# Altium schematic symbol library SCH - FET - P-CH - INFINEON PG-TO263-3-2.Schlib: 1 symbol
Pins are listed as number, name and electrical type; pins without a type are passive.

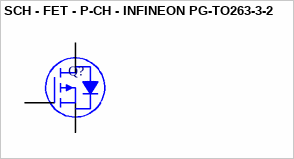
[diagram p0: symbol SCH - FET - P-CH - INFINEON PG-TO263-3-2]

## SCH - FET - P-CH - INFINEON PG-TO263-3-2
designator Q?
footprint INF-PG-TO263-3-2_N (DPAK, 3-Leads, Body 10x9.25mm, Pitch 2.54mm, IPC Medium Density)
footprint INF-PG-TO263-3-2_L (DPAK, 3-Leads, Body 10x9.25mm, Pitch 2.54mm, IPC High Density)
footprint INF-PG-TO263-3-2_M (DPAK, 3-Leads, Body 10x9.25mm, Pitch 2.54mm, IPC Low Density)
pins: 1 G, 2 D, 3 S, 4 D